# Altium footprint library IFBpcblib_offline.PcbLib: 137 footprints (part 8 of 9)
Each footprint in its own frame and in the unit in brackets; x right, y up, seen from the top. Pads: shape width x height; smd on the part's side, far side on the other; paste and mask are expansions set on the pad; w line width, h text height; cw(c..) or ccw(c..) is an arc to the next point about the centre after c.
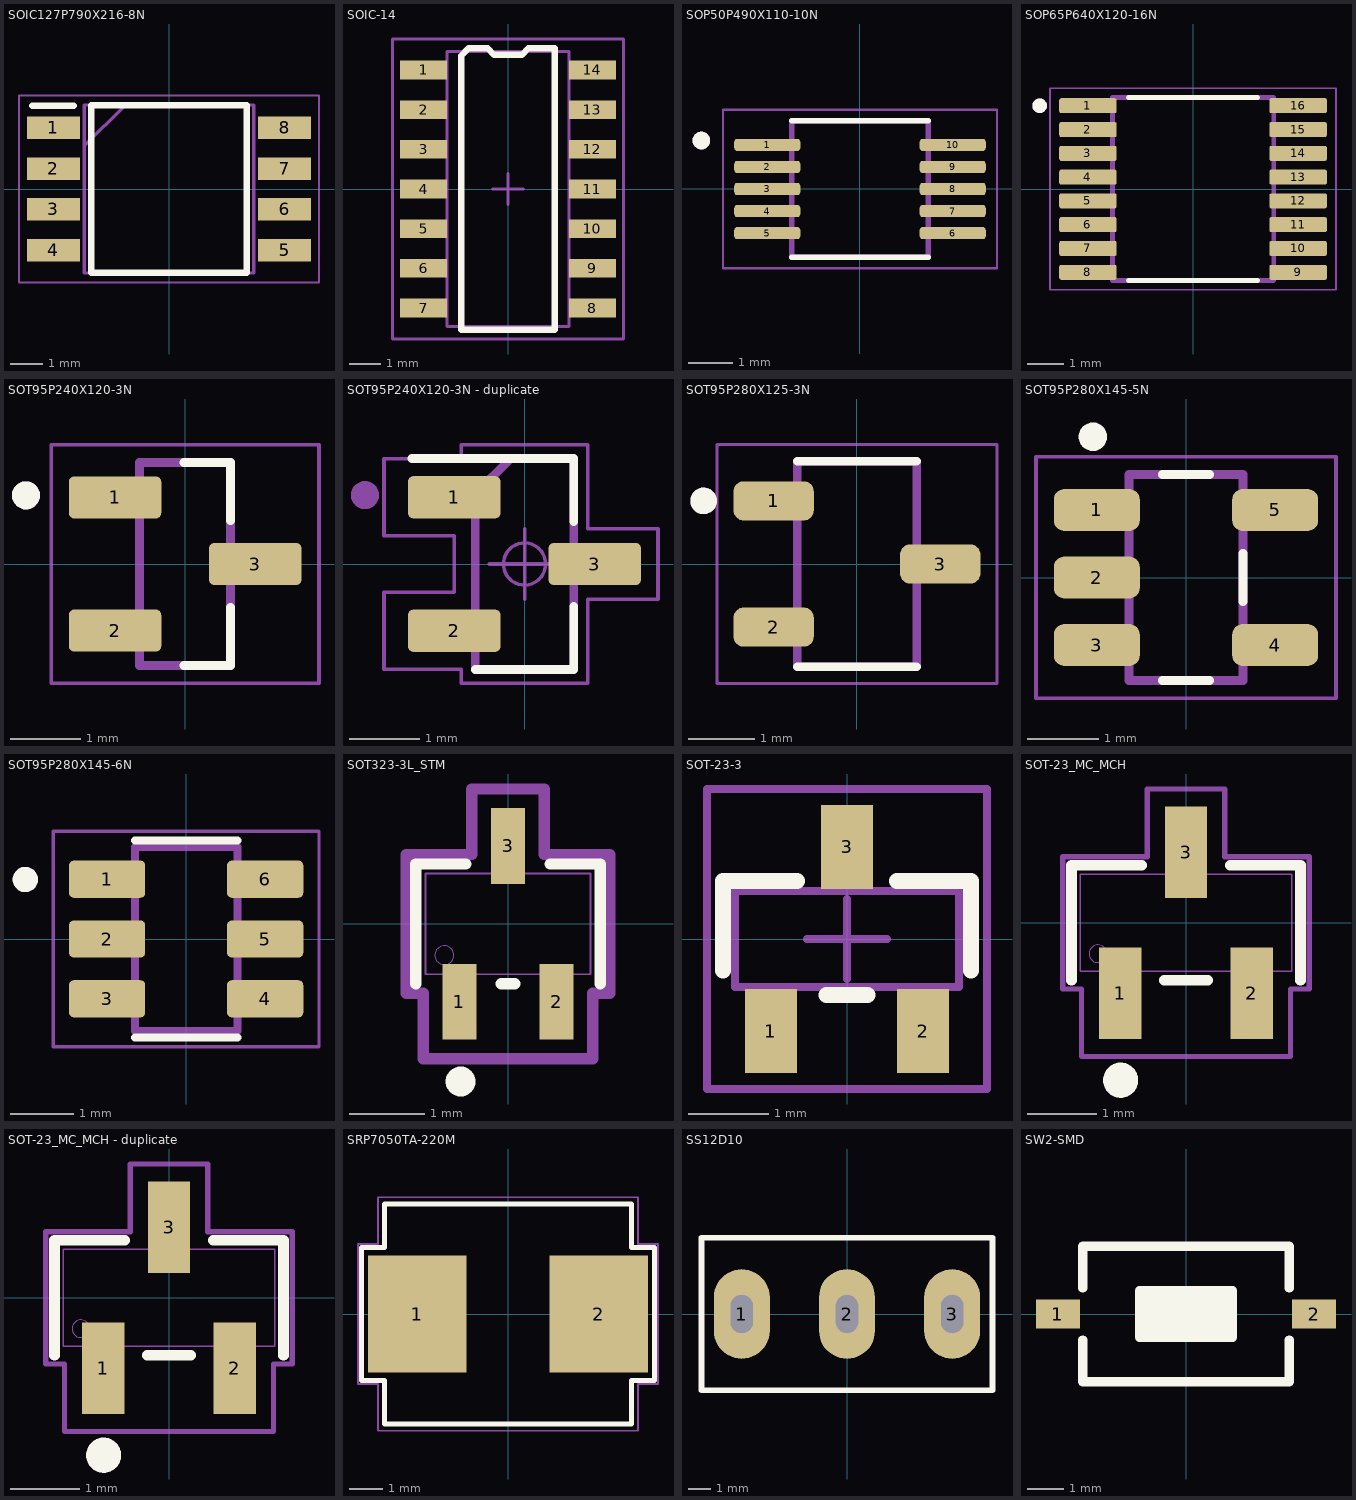
[diagram p7: the footprints below, top view; thin cyan lines are the x and y axes]

## SOIC127P790X216-8N [mm]
pads (8):
  rect 1.65x0.7 smd: 1(-3.6,1.905) 2(-3.6,0.635) 3(-3.6,-0.635) 4(-3.6,-1.905) 5(3.6,-1.905) 6(3.6,-0.635) 7(3.6,0.635) 8(3.6,1.905)
Top Overlay:
  lines w0.2: -4.267,2.591 -2.972,2.591 ; -2.425,-2.615 2.425,-2.615 2.425,2.615 -2.425,2.615 -2.425,-2.615
Mechanical 15:
  lines w0.1: -2.64,1.345 -1.37,2.615 ; -2.64,-2.615 2.64,-2.615 2.64,2.615 -2.64,2.615 -2.64,-2.615
Mechanical 20:
  lines w0.05: -4.675,-2.915 4.675,-2.915 4.675,2.915 -4.675,2.915 -4.675,-2.915
3D body "AS3004204-0108X0PSAY.stp": height 2.16, standoff 0, extent -3.95,-2.615 3.95,2.615

## SOIC-14 [mm] "SOIC 150mil, 14-Leads, Body 8.65x3.9mm, Pitch 1.27mm"
height 1.75
pads (14):
  rect 1.5x0.6 smd: 1(-2.7,3.81) 2(-2.7,2.54) 3(-2.7,1.27) 4(-2.7,0) 5(-2.7,-1.27) 6(-2.7,-2.54) 7(-2.7,-3.81) 8(2.7,-3.81) 9(2.7,-2.54) 10(2.7,-1.27) 11(2.7,0) 12(2.7,1.27) 13(2.7,2.54) 14(2.7,3.81)
Top Overlay:
  lines w0.2: -1.5,-4.5 1.5,-4.5 1.5,4.5 0.65,4.5 0.45,4.3 -0.45,4.3 -0.65,4.5 -1.265,4.5 -1.5,4.265 -1.5,-4.5
Top Assembly:
  lines w0.1: -1.95,-4.4 -1.95,4.4 1.95,4.4 1.95,-4.4 -1.95,-4.4
  text "1" at -3.429,3.937 h1
Top Courtyard:
  lines w0.1: -0.5,0 0.5,0 ; 0,-0.5 0,0.5 ; -3.7,-4.8 -3.7,4.8 3.7,4.8 3.7,-4.8 -3.7,-4.8
3D body "SOIC-14.STEP": height 1.75, standoff 0, extent -3.1,-4.375 3.1,4.375

## SOP50P490X110-10N [mm]
pads (10):
  rrect50% 1.5x0.28 smd: 1(-2.105,1) 2(-2.105,0.5) 3(-2.105,0) 4(-2.105,-0.5) 5(-2.105,-1) 6(2.105,-1) 7(2.105,-0.5) 8(2.105,0) 9(2.105,0.5) 10(2.105,1)
Top Overlay:
  circle w0.2: c-3.6,1.1 r0.1
  lines w0.127: -1.55,-1.55 1.55,-1.55 ; -1.55,1.55 1.55,1.55
Mechanical 13:
  circle w0.2: c-3.6,1.1 r0.1
  lines w0.127: -1.55,-1.55 -1.55,1.55 1.55,1.55 1.55,-1.55 -1.55,-1.55
Mechanical 15:
  lines w0.05: -3.11,-1.8 -3.11,1.8 3.11,1.8 3.11,-1.8 -3.11,-1.8
3D body "step_temp.STEP": height 1.1, standoff 0, extent -2.45,-1.5 2.45,1.5

## SOP65P640X120-16N [mm]
pads (16):
  rrect25% 1.57x0.41 smd mask+0.06: 1(-2.87,2.275) 2(-2.87,1.625) 3(-2.87,0.975) 4(-2.87,0.325) 5(-2.87,-0.325) 6(-2.87,-0.975) 7(-2.87,-1.625) 8(-2.87,-2.275) 9(2.87,-2.275) 10(2.87,-1.625) 11(2.87,-0.975) 12(2.87,-0.325) 13(2.87,0.325) 14(2.87,0.975) 15(2.87,1.625) 16(2.87,2.275)
Top Overlay:
  circle w0.2: c-4.19,2.275 r0.1
  lines w0.127: -1.765,-2.5 1.765,-2.5 ; -1.765,2.5 1.765,2.5
Mechanical 13:
  circle w0.2: c-4.19,2.275 r0.1
  lines w0.127: -2.2,-2.5 2.2,-2.5 2.2,2.5 -2.2,2.5 -2.2,-2.5
Mechanical 15:
  lines w0.05: -3.905,-2.75 3.905,-2.75 3.905,2.75 -3.905,2.75 -3.905,-2.75
3D body "step_temp.STEP": height 1.2, standoff 0, extent -3.2,-2.5 3.2,2.5

## SOT95P240X120-3N [mm]
height 1.2
pads (3):
  rrect25% 1.32x0.6 smd: 1(-1,0.95) 2(-1,-0.95) 3(1,0)
Top Overlay:
  circle w0.2: c-2.27,0.98 r0.1
  lines w0.127: -0.02,-1.45 0.65,-1.45 0.65,-0.62 ; -0.02,1.45 0.65,1.45 0.65,0.62
Mechanical 13:
  circle w0.2: c-2.27,0.98 r0.1
  lines w0.127: -0.65,-1.45 -0.65,1.45 0.65,1.45 0.65,-1.45 -0.65,-1.45
Mechanical 15:
  lines w0.05: -1.91,-1.7 1.91,-1.7 1.91,1.7 -1.91,1.7 -1.91,-1.7
3D body "step_temp.STEP": height 1.2, standoff 0, extent -1.2,-1.45 1.2,1.45

## SOT95P240X120-3N - duplicate [mm]
height 1.2
pads (3):
  rrect25% 1.32x0.6 smd: 1(-1,0.95) 2(-1,-0.95) 3(1,0)
Top Overlay:
  lines w0.125: -1.6,1.5 0.6,1.5 0.7,1.5 0.7,0.6 ; -0.7,-1.5 0.7,-1.5 0.7,-0.6
Top Assembly:
  lines w0.125: -0.7,-1.5 0.7,-1.5 0.7,1.5 -0.2,1.5 -0.7,1 -0.7,-1.5
  text "'.Designator'" at -3.952,-0.622 h1.5
Top Courtyard:
  lines w0.05: -2,-1.5 -2,-0.4 -1,-0.4 -1,0.4 -2,0.4 -2,1.5 -0.9,1.5 -0.9,1.7 0.9,1.7 0.9,0.5 1.9,0.5 1.9,-0.5 0.9,-0.5 0.9,-1.7 -0.9,-1.7 -0.9,-1.5 -2,-1.5
Top Component Center:
  circle w0.05: c0,0 r0.3
  lines w0.05: -0.5,0 0.5,0 ; 0,-0.5 0,0.5
Mechanical 13:
  circle w0.2: c-2.27,0.98 r0.1
3D body "step_temp.STEP": height 1.2, standoff -0.1, extent -1.3,-1.52 1.3,1.52

## SOT95P280X125-3N [mm]
height 1.25
pads (3):
  rrect50% 1.21x0.59 smd: 1(-1.255,0.95) 2(-1.255,-0.95) 3(1.255,0)
Top Overlay:
  circle w0.2: c-2.31,0.95 r0.1
  lines w0.127: -0.9,-1.55 0.9,-1.55 ; -0.9,1.55 0.9,1.55
Mechanical 13:
  circle w0.2: c-2.31,0.95 r0.1
  lines w0.127: -0.9,-1.55 0.9,-1.55 0.9,1.55 -0.9,1.55 -0.9,-1.55
Mechanical 15:
  lines w0.05: -2.11,-1.8 2.11,-1.8 2.11,1.8 -2.11,1.8 -2.11,-1.8
3D body "step_temp.STEP": height 1.25, standoff 0, extent -1.4,-1.45 1.4,1.45

## SOT95P280X145-5N [mm]
pads (5):
  rrect50% 1.21x0.59 smd: 1(-1.255,0.95) 2(-1.255,0) 3(-1.255,-0.95) 4(1.255,-0.95) 5(1.255,0.95)
Top Overlay:
  circle w0.2: c-1.31,1.98 r0.1
  lines w0.127: -0.33,-1.45 0.33,-1.45 ; -0.33,1.45 0.33,1.45 ; 0.8,-0.335 0.8,0.335
Mechanical 13:
  lines w0.127: -0.8,-1.45 0.8,-1.45 0.8,1.45 -0.8,1.45 -0.8,-1.45
Mechanical 15:
  lines w0.05: -2.11,-1.7 -2.11,1.7 2.11,1.7 2.11,-1.7 -2.11,-1.7
3D body "step_temp.STEP": height 1.45, standoff 0, extent -1.4,-1.45 1.4,1.45

## SOT95P280X145-6N [mm]
pads (6):
  rrect25% 1.21x0.59 smd: 1(-1.255,0.95) 2(-1.255,0) 3(-1.255,-0.95) 4(1.255,-0.95) 5(1.255,0) 6(1.255,0.95)
Top Overlay:
  circle w0.2: c-2.555,0.945 r0.1
  lines w0.127: -0.813,-1.565 0.813,-1.565 ; -0.813,1.565 0.813,1.565
Mechanical 13:
  circle w0.2: c-2.555,0.945 r0.1
  lines w0.127: -0.813,-1.462 0.813,-1.462 0.813,1.462 -0.813,1.462 -0.813,-1.462
Mechanical 15:
  lines w0.05: -2.11,-1.713 -2.11,1.713 2.11,1.713 2.11,-1.713 -2.11,-1.713
3D body "step_temp.STEP": height 1.42, standoff -0.03, extent -1.4,-1.462 1.4,1.462

## SOT323-3L_STM [mil]
pads (3):
  rect 18x40 smd paste+0 mask+0: 1(-25.59,-41) 2(25.59,-41) 3(0,41)
Top Overlay:
  circle w7.87: c-25,-83 r3.94
  lines w6: -48.5,-31.5 -48.5,31.5 -22.1,31.5 ; -3.49,-31.5 3.49,-31.5 ; 22.1,31.5 48.5,31.5 48.5,-31.5
Mechanical 13:
  circle w0: c-33.5,-16.5 r5
  lines w1: -43.5,-26.5 -43.5,26.5 43.5,26.5 43.5,-26.5 -43.5,-26.5 ; -33.59,-47 -17.59,-47 -17.59,-26.5 -33.59,-26.5 -33.59,-47 ; -8,26.5 -8,47 8,47 8,26.5 -8,26.5 ; 17.59,-47 33.59,-47 33.59,-26.5 17.59,-26.5 17.59,-47
Mechanical 15:
  lines w6: -53.5,-36.5 -44.59,-36.5 -44.59,-71 44.59,-71 44.59,-36.5 53.5,-36.5 53.5,36.5 19,36.5 19,71 -19,71 -19,36.5 -53.5,36.5 -53.5,-36.5
3D body "SOT323-3L_STM.step": height 43.11, standoff 0, extent -43.5,-47.01 43.5,47.01

## SOT-23-3 [mm]
pads (3):
  rect 0.65x1.05 smd: 1(-0.95,-1.15) 2(0.95,-1.15) 3(0,1.15)
Top Overlay:
  lines w0.2: -1.552,-0.394 -1.552,0.722 -0.625,0.722 ; -0.254,-0.7 0.254,-0.7 ; 0.625,0.722 1.552,0.722 1.552,-0.394
Top Assembly:
  lines w0.1: -1.4,-0.6 -1.4,0.6 1.4,0.6 1.4,-0.6 -1.4,-0.6 ; -1.175,-1.15 -0.725,-1.15 -0.725,-0.6 -1.175,-0.6 -1.175,-1.15 ; -0.225,0.6 -0.225,1.15 0.225,1.15 0.225,0.6 -0.225,0.6 ; 0.725,-1.15 0.725,-0.6 1.175,-0.6 1.175,-1.15 0.725,-1.15
Top Courtyard:
  lines w0.1: -0.5,0 0.5,0 ; 0,-0.5 0,0.5 ; -1.752,-1.875 -1.752,1.875 1.752,1.875 1.752,-1.875 -1.752,-1.875
3D body "SOT-23.step": height 1.09, standoff -0.01, extent -1.5,-1.25 1.5,1.25

## SOT-23_MC_MCH [mil]
pads (3):
  rect 24x52 smd paste+0 mask+0: 1(-37.4,-39.97) 2(37.4,-39.97) 3(0,39.97)
Top Overlay:
  circle w10: c-37.13,-89.41 r5
  lines w6: -65.04,-32.56 -65.04,32.56 -25.1,32.56 ; -12.3,-32.56 12.3,-32.56 ; 25.1,32.56 65.04,32.56 65.04,-32.56
Mechanical 13:
  circle w0: c-50.04,-17.56 r5
  lines w1: -60.04,-27.56 -60.04,27.56 60.04,27.56 60.04,-27.56 -60.04,-27.56 ; -48.4,-51.97 -26.4,-51.97 -26.4,-27.56 -48.4,-27.56 -48.4,-51.97 ; -11,27.56 -11,51.97 11,51.97 11,27.56 -11,27.56 ; 26.4,-51.97 48.4,-51.97 48.4,-27.56 26.4,-27.56 26.4,-51.97
Mechanical 15:
  lines w3: -70.04,-37.56 -59.4,-37.56 -59.4,-75.97 59.4,-75.97 59.4,-37.56 70.04,-37.56 70.04,37.56 22,37.56 22,75.97 -22,75.97 -22,37.56 -70.04,37.56 -70.04,-37.56
3D body "SOT-23_MC_MCH.step": height 44.17, standoff 0, extent -60.04,-51.97 60.04,51.97

## SOT-23_MC_MCH - duplicate [mil]
pads (3):
  rect 24x52 smd paste+0 mask+0: 1(-37.4,-39.97) 2(37.4,-39.97) 3(0,39.97)
Top Overlay:
  circle w10: c-37.13,-89.41 r5
  lines w6: -65.04,-32.56 -65.04,32.56 -25.1,32.56 ; -12.3,-32.56 12.3,-32.56 ; 25.1,32.56 65.04,32.56 65.04,-32.56
Mechanical 13:
  circle w0: c-50.04,-17.56 r5
  lines w1: -60.04,-27.56 60.04,-27.56 60.04,27.56 -60.04,27.56 -60.04,-27.56 ; -48.4,-51.97 -48.4,-27.56 -26.4,-27.56 -26.4,-51.97 -48.4,-51.97 ; -11,27.56 11,27.56 11,51.97 -11,51.97 -11,27.56 ; 26.4,-51.97 26.4,-27.56 48.4,-27.56 48.4,-51.97 26.4,-51.97
Mechanical 15:
  lines w3: -70.04,-37.56 -70.04,37.56 -22,37.56 -22,75.97 22,75.97 22,37.56 70.04,37.56 70.04,-37.56 59.4,-37.56 59.4,-75.97 -59.4,-75.97 -59.4,-37.56 -70.04,-37.56
3D body "SOT-23_MC_MCH.step": height 44.17, standoff 0, extent -60.04,-51.97 60.04,51.97

## SRP7050TA-220M [mm]
pads (2):
  rect 2.95x3.5 smd: 1(-2.725,0) 2(2.725,0)
Top Overlay:
  lines w0.15: -4.4,-2 -4.4,2 -3.7,2 -3.7,3.3 3.7,3.3 3.7,2 4.4,2 4.4,-2 3.7,-2 3.7,-3.3 -3.7,-3.3 -3.7,-2 -4.4,-2
Top Courtyard:
  lines w0.05: -4.5,-2.1 -3.9,-2.1 -3.9,-3.5 3.9,-3.5 3.9,-2.1 4.5,-2.1 4.5,2.1 3.9,2.1 3.9,3.5 -3.9,3.5 -3.9,2.1 -4.5,2.1 -4.5,1.8 -4.5,-2.1
3D body "SRP7050TA.stp": height 4.6, standoff -0.35, extent -3.65,-3.3 3.65,3.3

## SS12D10 [mm]
pads (3):
  oval 2.5x4 hole 1 slot 1.7 at 90 deg: 1(-4.7,0) 2(0,0) 3(4.7,0)
Top Overlay:
  lines w0.254: -6.5,-3.4 -6.5,3.4 6.5,3.4 6.5,-3.4 -6.5,-3.4
3D body "Basprov1.1 v2.step": height 10.76, standoff -6.33, extent -6.5,-3.4 6.5,3.4

## SW2-SMD [mm]
pads (2):
  rect 1.2x0.8 smd: 1(-3.5,0) 2(3.5,0)
Top Overlay:
  rectangle: -1.27,-0.635 1.27,0.635
  lines w0.254: -2.819,-0.711 -2.819,-1.854 2.819,-1.854 2.819,-0.711 ; -2.819,0.711 -2.819,1.854 2.819,1.854 2.819,0.711 ; -1.27,-0.635 1.27,-0.635 1.27,0.635 -1.27,0.635 -1.27,-0.635
3D body "User Library-Button-SMD.step": height 2.5, standoff 0, extent -3.05,-1.85 3.05,1.85